# Altium footprint library L.PcbLib: 12 footprints
Each footprint in its own frame and in the unit in brackets; x right, y up, seen from the top. Pads: shape width x height; smd on the part's side, far side on the other; paste and mask are expansions set on the pad; w line width, h text height; cw(c..) or ccw(c..) is an arc to the next point about the centre after c.
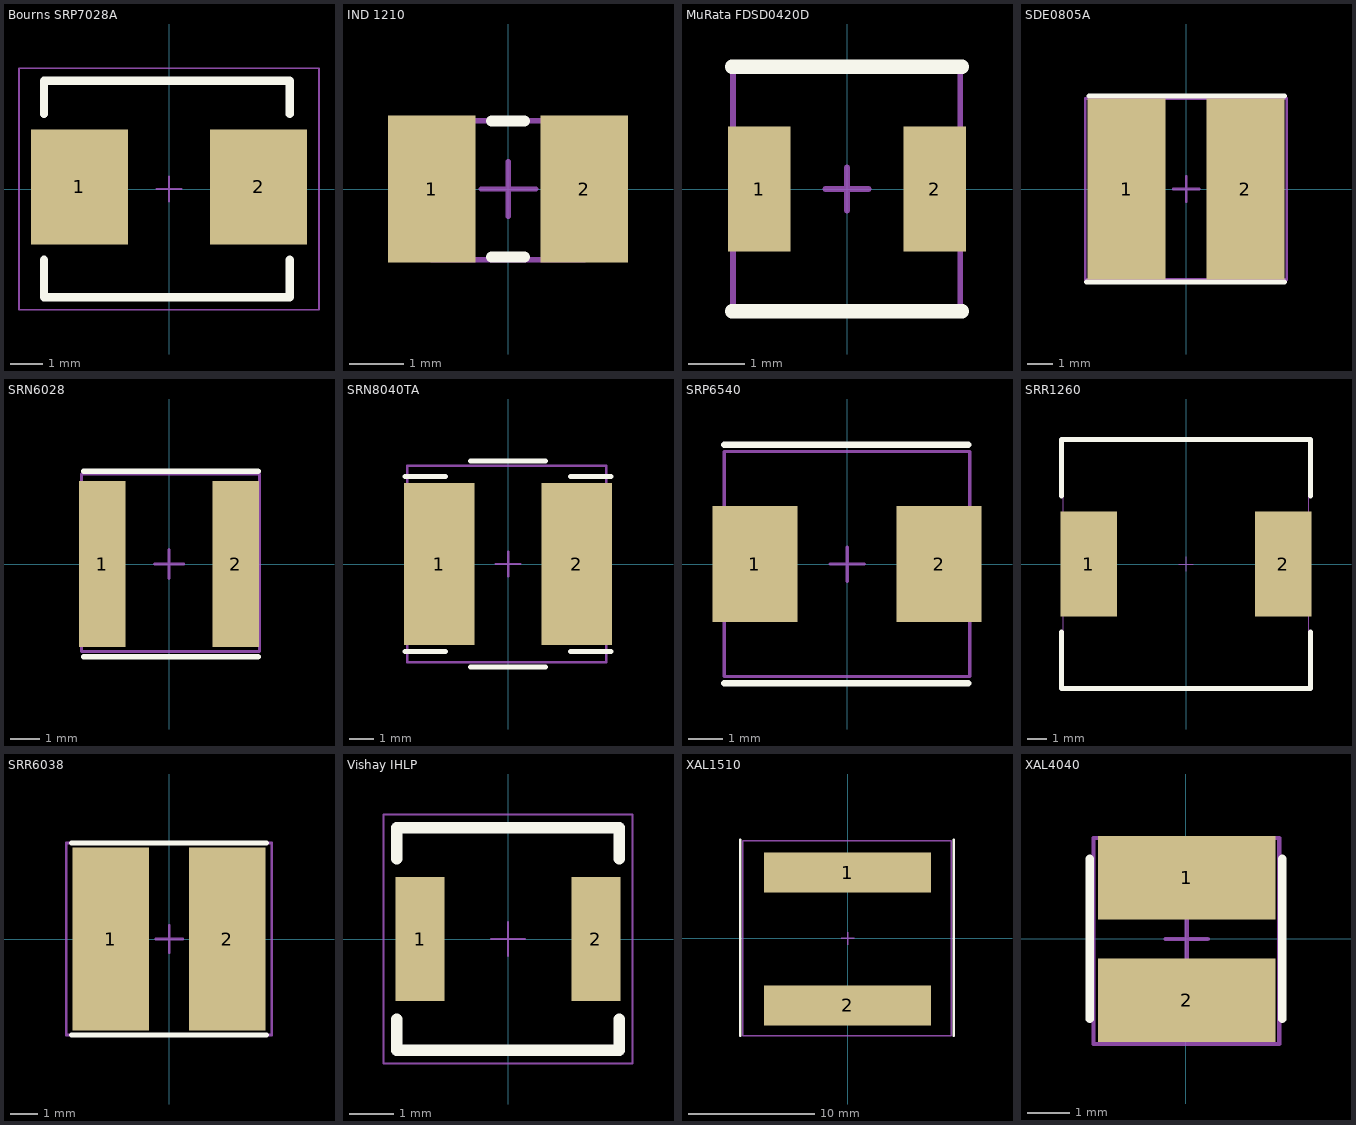
[diagram p0: the footprints below, top view; thin cyan lines are the x and y axes]

## Bourns SRP7028A [mm] "Shielded Power Inductors"
height 2.8
pads (2):
  rect 2.95x3.5 smd: 1(-2.73,0.064) 2(2.73,0.064)
Top Overlay:
  lines w0.254: -3.81,-2.159 -3.81,-3.302 3.683,-3.302 3.683,-2.159 ; -3.81,2.286 -3.81,3.302 3.683,3.302 3.683,2.286
Mechanical 3:
  text ".designator" at 0,1.016 h0.5
Mechanical 15:
  lines w0.05: -0.381,0 0.381,0 ; 0,-0.381 0,0.381 ; -4.572,-3.683 -4.572,3.683 4.572,3.683 4.572,-3.683 -4.572,-3.683
3D body: height 3, standoff 0, extent -3.81,-3.302 3.683,3.302

## IND 1210 [mm] "Chip Inductor Body 3.2 x 2.5 mm (LxW typ)"
height 1.35
pads (2):
  rect 1.6x2.7 smd: 1(-1.4,0) 2(1.4,0)
Top Overlay:
  lines w0.2: -0.3,-1.25 0.3,-1.25 ; -0.3,1.25 0.3,1.25
Mechanical 3:
  text ".Designator" at -2.2,1.6 h0.5
Mechanical 15:
  lines w0.1: -0.495,0 0.505,0 ; 0.005,-0.5 0.005,0.5 ; -1.4,-1.3 -1.4,1.251 1.4,1.251 1.4,-1.3 -1.4,-1.3
3D body "CAP1210.stp": height 0.92, standoff -0.02, extent -1.6,-1.25 1.6,1.25

## MuRata FDSD0420D [mm] "Inductor"
pads (2):
  rect 1.1x2.2 smd: 1(-1.55,0) 2(1.55,0)
Top Overlay:
  lines w0.254: -2.032,-2.159 2.032,-2.159 ; -2.032,2.159 2.032,2.159
Mechanical 3:
  text ".designator" at 0,0.8 h0.5
Mechanical 15:
  lines w0.1: -0.381,0 0.381,0 ; 0,-0.381 0,0.381 ; -2.013,-2.1 2,-2.1 2,2.113 -2.013,2.113 -2.013,-2.1
3D body: height 3, standoff 0, extent -2.032,-2.159 2.032,2.159

## SDE0805A [mm]
pads (2):
  rect 3x7 smd: 1(-2.3,0) 2(2.3,0)
Top Overlay:
  lines w0.2: -3.848,-3.6 3.8,-3.6 ; -3.748,3.6 3.8,3.6
Mechanical 3:
  text ".Designator" at -1.524,1.651 h0.5
Mechanical 15:
  lines w0.1: -0.495,0 0.505,0 ; 0.005,-0.5 0.005,0.5 ; -3.9,-3.5 3.9,-3.5 3.9,3.5 -3.9,3.5 -3.9,-3.5
3D body "User Library-Inductor_SDE0805.STEP": height 5, standoff -0.02, extent -3.888,-3.5 3.888,3.5

## SRN6028 [mm]
pads (2):
  rect 1.6x5.7 smd: 1(-2.286,0) 2(2.286,0)
Top Overlay:
  lines w0.2: -2.921,-3.175 3.048,-3.175 ; -2.921,3.175 3.048,3.175
Mechanical 3:
  text ".Designator" at -1.524,1.651 h0.5
Mechanical 15:
  lines w0.1: -0.495,0 0.505,0 ; 0.005,-0.5 0.005,0.5 ; -3,-3 -3,3.075 3.102,3.075 3.102,-3 -3,-3
3D body "SRN6028 series.stp": height 2.9, standoff 0.01, extent -2.921,-3.001 3.081,3.001

## SRN8040TA [mm]
pads (2):
  rect 2.85x6.6 smd: 1(-2.794,0) 2(2.794,0)
Top Overlay:
  lines w0.2: -4.191,-3.556 -2.54,-3.556 ; -4.191,3.556 -2.54,3.556 ; -1.524,-4.191 1.524,-4.191 ; -1.524,4.191 1.524,4.191 ; 2.54,-3.556 4.191,-3.556 ; 2.54,3.556 4.191,3.556
Mechanical 3:
  text ".Designator" at -1.524,1.651 h0.5
Mechanical 15:
  lines w0.1: -0.495,0 0.505,0 ; 0.005,-0.5 0.005,0.5 ; -4.1,-4 -4.1,4 4,4 4,-4 -4.1,-4
3D body "SRN8040TA.stp": height 3.96, standoff -0.23, extent -4.001,-4 4,4.001

## SRP6540 [mm]
pads (2):
  rect 2.5x3.4 smd: 1(-2.7,0) 2(2.7,0)
Top Overlay:
  lines w0.2: -3.6,-3.5 3.551,-3.5 ; -3.6,3.5 3.551,3.5
Mechanical 3:
  text ".Designator" at -1.524,1.651 h0.5
Mechanical 15:
  lines w0.1: -0.495,0 0.505,0 ; 0.005,-0.5 0.005,0.5 ; -3.6,-3.3 -3.6,3.3 3.6,3.3 3.6,-3.3 -3.6,-3.3
3D body "SRP6540.stp": height 3.97, standoff -0.02, extent -3.594,-3.251 3.594,3.251

## SRR1260 [mm] "High Current Inductors"
height 8
pads (2):
  rect 2.9x5.4 smd: 1(-5,0) 2(5,0)
Top Overlay:
  lines w0.254: -6.4,-3.5 -6.4,-6.4 6.4,-6.4 6.4,-3.5 ; -6.4,3.5 -6.4,6.4 6.4,6.4 6.4,3.5
Mechanical 3:
  text ".designator" at 0,1.016 h0.5
Mechanical 15:
  lines w0.05: -0.381,0 0.381,0 ; 0,-0.381 0,0.381 ; -6.3,-6.3 6.3,-6.3 6.3,6.3 -6.3,6.3 -6.3,-6.3
3D body "User Library-SRR1260-680M.step": height 6.29, standoff 0, extent -6.25,-6.25 6.25,6.25

## SRR6038 [mm]
pads (2):
  rect 2.85x6.8 smd: 1(-2.159,0) 2(2.159,0)
Top Overlay:
  lines w0.2: -3.6,-3.556 3.6,-3.556 ; -3.6,3.556 3.6,3.556
Mechanical 3:
  text ".Designator" at -1.524,1.651 h0.5
Mechanical 15:
  lines w0.1: -0.495,0 0.505,0 ; 0.005,-0.5 0.005,0.5 ; -3.81,-3.556 -3.81,3.556 3.81,3.556 3.81,-3.556 -3.81,-3.556

## Vishay IHLP [mm] "Low Profile, High Current IHLP® Inductors"
height 3
pads (2):
  rect 1.1x2.79 smd: 1(-1.973,0) 2(1.973,0)
Top Overlay:
  lines w0.254: -2.5,-1.8 -2.5,-2.5 2.5,-2.5 2.5,-1.8 ; -2.5,1.8 -2.5,2.5 2.5,2.5 2.5,1.8
Mechanical 3:
  text ".designator" at 0,1.016 h0.5
Mechanical 15:
  lines w0.05: -0.381,0 0.381,0 ; 0,-0.381 0,0.381 ; -2.794,-2.794 -2.794,2.794 2.794,2.794 2.794,-2.794 -2.794,-2.794
3D body: height 3, standoff 0, extent -2.54,-2.54 2.54,2.54

## XAL1510 [mm] "Shielded Power Inductors – XAL15xx"
pads (2):
  rect 13.2x3.18 smd: 1(0,5.2) 2(0,-5.3)
Top Overlay:
  lines w0.2: -8.5,-7.7 -8.5,7.8 ; 8.4,-7.7 8.4,7.8
Mechanical 3:
  text ".Designator" at -0.1,0.9 h0.5
Mechanical 15:
  lines w0.1: -0.485,-0.003 0.515,-0.003 ; 0.015,-0.503 0.015,0.497 ; -8.3,-7.7 8.2,-7.7 8.2,7.7 -8.3,7.7 -8.3,-7.7
3D body "Coilcraft-XAL1510-472.step": height 9.7, standoff -0.3, extent -8.2,-7.7 8.2,7.7

## XAL4040 [mm] "Shielded Power Inductors – XAL40XX"
pads (2):
  rect 4.22x1.99 smd: 1(0.015,1.452) 2(0.015,-1.458)
Top Overlay:
  lines w0.2: -2.286,-1.905 -2.286,1.905 ; 2.286,-1.905 2.286,1.905
Mechanical 3:
  text ".Designator" at 0.015,1.2 h0.5
Mechanical 15:
  lines w0.1: -0.485,-0.003 0.515,-0.003 ; 0.015,-0.503 0.015,0.497 ; -2.2,-2.5 2.215,-2.5 2.215,2.397 -2.2,2.397 -2.2,-2.5
3D body "Coilcraft-XAL4040.step": height 4, standoff -0.1, extent -2.15,-2.15 2.15,2.15
3D body: height 3, standoff 0, extent -2.085,0.797 2.115,2.097
3D body: height 3, standoff 0, extent -2.085,-2.103 2.115,-0.803